# EAGLE library part MCP7940N (library mcp7940n)
Battery-Backed I2C™ Real-Time Clock/Calendar with SRAM www: http://www.microchip.com/wwwproducts/Devices.aspx?product=MCP7940M Timekeeping Features: • Real-Time Clock/Calendar (RTCC): - Hours, Minutes, Seconds, Day of Week, Day, Month, Year - Leap year compensated to 2399 - 12/24 hour modes • Oscillator for 32.768 kHz Crystals: - Optimized for 6-9 pF crystals • On-Chip Digital Trimming/Calibration: - ±1 PPM resolution - ±129 PPM range • Dual Programmable Alarms • Versatile Output Pin: - Clock output with selectable frequency - Alarm output - General purpose output • Power-Fail Time-Stamp: - Time logged on switchover to and from Battery mode Low-Power Features: • Wide Voltage Range: - Operating voltage range of 1.8V to 5.5V - Backup voltage range of 1.3V to 5.5V • Low Typical Timekeeping Current: - Operating from VCC: 1.2 μA at 3.3V - Operating from battery backup: 925 nA at 3.0V • Automatic Switchover to Battery Backup User Memory: • 64-byte Battery-Backed SRAM Operating Ranges: • 2-Wire Serial Interface, I2C™ Compatible - I2C clock rate up to 400 kHz • Temperature Range: - Industrial (I): -40°C to +85°C - Extended (E): -40°C to +125°C Packages: • 8-Lead SOIC, MSOP, TSSOP, PDIP and 2x3 TDFN General Description: The MCP7940N Real-Time Clock/Calendar (RTCC) tracks time using internal counters for hours, minutes, seconds, days, months, years, and day of week. Alarms can be configured on all counters up to and including months. For usage and configuration, the MCP7940N supports I2C communications up to 400 kHz. The open-drain, multi-functional output can be configured to assert on an alarm match, to output a selectable frequency square wave, or as a general purpose output. The MCP7940N is designed to operate using a 32.768 kHz tuning fork crystal with external crystal load capacitors. On-chip digital trimming can be used to adjust for frequency variance caused by crystal tolerance and temperature. SRAM and timekeeping circuitry are powered from the back-up supply when main power is lost, allowing the device to maintain accurate time and the SRAM contents. The times when the device switches over to the back-up supply and when primary power returns are both logged by the power-fail time-stamp.
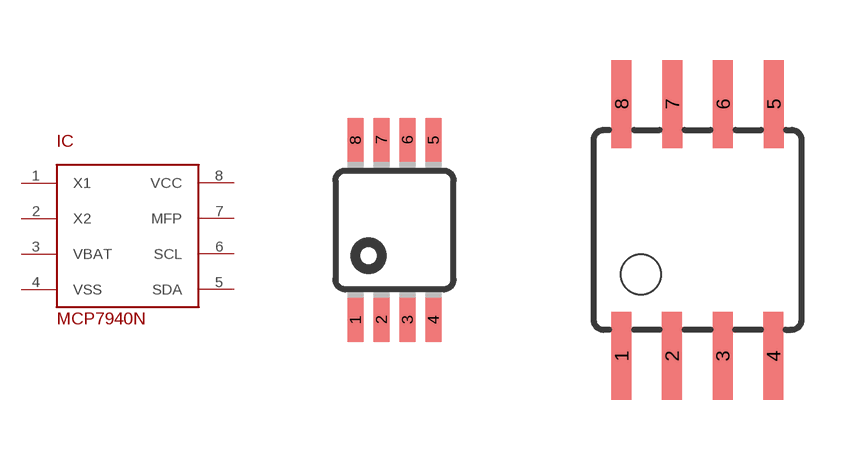
[diagram p0: symbol with the pads of MSOP8; footprints MSOP8, SOIC8]

Designator prefix IC

## MCP7940NMSOP8 (WWW: http://www.microchip.com/wwwproducts/Devices.aspx?product=MCP7940M)  [MSOP8]
1  X1
2  X2
3  VBAT
4  VSS
5  SDA
6  SCL
7  MFP
8  VCC

## MCP7940NSOIC8  [SOIC8]
Pads as for MSOP8

## Footprint MSOP8 (pad centres in mm)
8M, 8-Lead, 0.118" Wide, Miniature Small Outline Package MSOP 8M-Package doc1097.pdf
smd 0.4 x 1.1: 1 -0.975,-2.25; 2 -0.325,-2.25; 3 0.325,-2.25; 4 0.975,-2.25; 5 0.975,2.25; 6 0.325,2.25; 7 -0.325,2.25; 8 -0.975,2.25

## Footprint SOIC8 (pad centres in mm)
Wide Plastic Gull Wing Small Outline Package
smd 0.5 x 2.2: 1 -1.905,-3.154; 2 -0.645,-3.154; 3 0.625,-3.154; 4 1.895,-3.154; 5 1.905,3.154; 6 0.635,3.154; 7 -0.635,3.154; 8 -1.905,3.154